# Altium footprint library PCBLIB2.PcbLib: 37 footprints (part 1 of 3)
Each footprint in its own frame and in the unit in brackets; x right, y up, seen from the top. Pads: shape width x height; smd on the part's side, far side on the other; paste and mask are expansions set on the pad; w line width, h text height; cw(c..) or ccw(c..) is an arc to the next point about the centre after c.
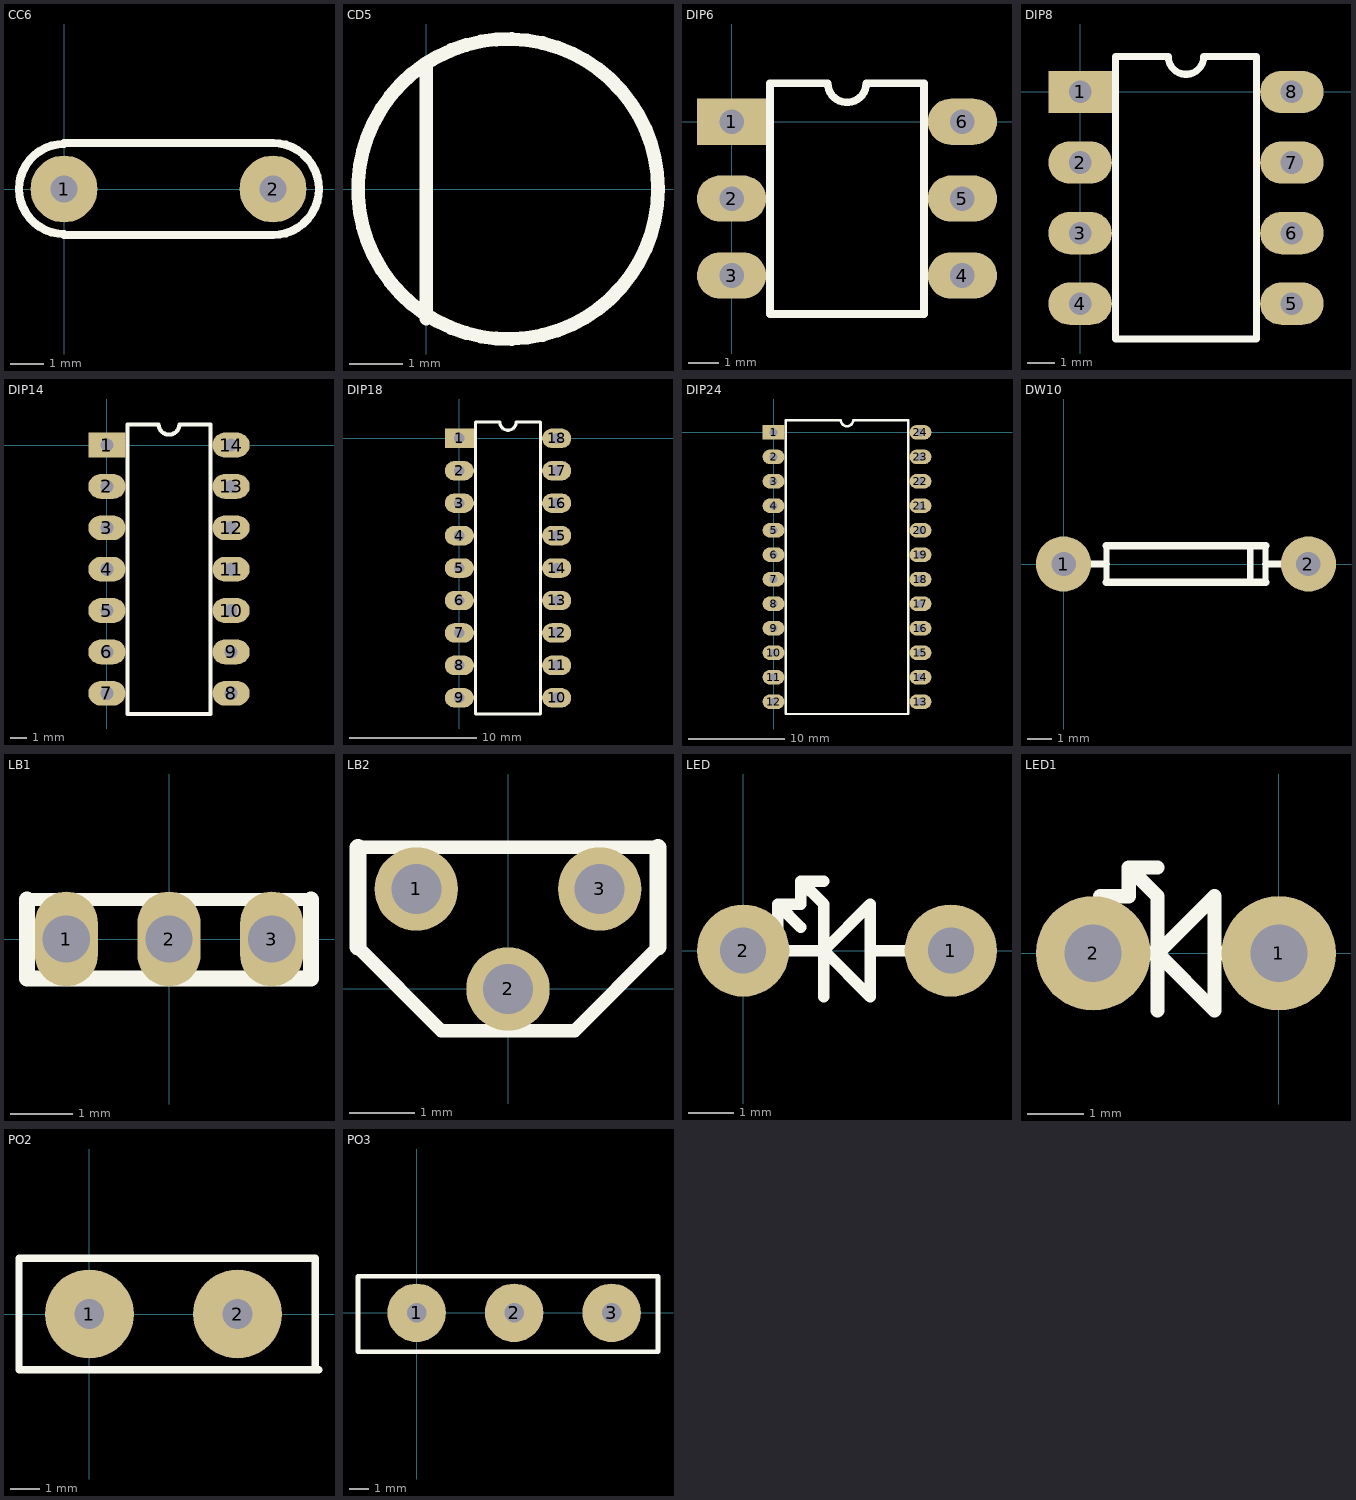
[diagram p0: the footprints below, top view; thin cyan lines are the x and y axes]

## CC6 [mil]
pads (2):
  round 80 hole 32: 1(0,0) 2(250,0)
TopOverlay:
  lines w10: 0,-55 250,-55 ccw(c250,0) 250,55 0,55 ; 0,-53.85 cw(c0,0) 0,53.85

## CD5 [mil]
TopOverlay:
  circle w10: c60,0 r110
  lines w10: 0,-95 0,90

## DIP1v [mil]

## DIP6 [mil]
pads (6):
  rect 90x60 hole 32: 1(0,0)
  oval 90x60 hole 32: 2(0,-100) 3(0,-200) 4(300,-200) 5(300,-100) 6(300,0)
TopOverlay:
  lines w10: 50,-250 250,-250 250,50 175,50 cw(c150,50) 125,50 50,50 50,-250

## DIP8 [mil]
pads (8):
  rect 90x60 hole 32: 1(0,0)
  oval 90x60 hole 32: 2(0,-100) 3(0,-200) 4(0,-300) 5(300,-300) 6(300,-200) 7(300,-100) 8(300,0)
TopOverlay:
  lines w10: 50,-350 250,-350 250,50 175,50 cw(c150,50) 125,50 50,50 50,-350

## DIP14 [mil]
pads (14):
  rect 90x60 hole 32: 1(0,0)
  oval 90x60 hole 32: 2(0,-100) 3(0,-200) 4(0,-300) 5(0,-400) 6(0,-500) 7(0,-600) 8(300,-600) 9(300,-500) 10(300,-400) 11(300,-300) 12(300,-200) 13(300,-100) 14(300,0)
TopOverlay:
  lines w10: 50,-650 50,50 125,50 ccw(c150,50) 175,50 250,50 250,-650 50,-650

## DIP18 [mil]
pads (18):
  rect 90x60 hole 32: 1(0,0)
  oval 90x60 hole 32: 2(0,-100) 3(0,-200) 4(0,-300) 5(0,-400) 6(0,-500) 7(0,-600) 8(0,-700) 9(0,-800) 10(300,-800) 11(300,-700) 12(300,-600) 13(300,-500) 14(300,-400) 15(300,-300) 16(300,-200) 17(300,-100) 18(300,0)
TopOverlay:
  lines w10: 50,-850 50,50 125,50 ccw(c150,50) 175,50 250,50 250,-850 50,-850

## DIP24 [mil]
pads (24):
  rect 90x60 hole 32: 1(0,0)
  oval 90x60 hole 32: 2(0,-100) 3(0,-200) 4(0,-300) 5(0,-400) 6(0,-500) 7(0,-600) 8(0,-700) 9(0,-800) 10(0,-900) 11(0,-1000) 12(0,-1100) 13(600,-1100) 14(600,-1000) 15(600,-900) 16(600,-800) 17(600,-700) 18(600,-600) 19(600,-500) 20(600,-400) 21(600,-300) 22(600,-200) 23(600,-100) 24(600,0)
TopOverlay:
  lines w10: 50,-1150 50,50 275,50 ccw(c300,50) 325,50 550,50 550,-1150 50,-1150

## DW10 [mil]
pads (2):
  round 90 hole 40: 1(0,0) 2(400,0)
TopOverlay:
  lines w10: 70,-30 70,30 ; 305,-30 305,30 ; 330,-30 330,30
  lines w12: 40,0 70,0 ; 70,-30 330,-30 ; 70,30 330,30 ; 330,0 360,0

## IC1 [mil]

## LB1 [mil]
pads (3):
  oval 40x60 hole 30: 1(-65,0) 2(0,0) 3(65,0)
TopOverlay:
  lines w8: -90,25 90,25
  lines w10: -90,25 -90,-25 90,-25 90,25

## LB2 [mil]
pads (3):
  round 50 hole 30: 1(-55,60) 2(0,0) 3(55,60)
TopOverlay:
  lines w8: -90,25 -40,-25 40,-25 90,25 ; -90,85 90,85
  lines w10: -90,25 -90,85 ; 90,25 90,85

## LED [mil]
pads (2):
  round 80 hole 40: 1(180,0) 2(0,0)
TopOverlay:
  lines w10: 0,0 70,0 ; 30,20 30,40 ; 50,20 30,40 ; 70,-40 70,40 50,60 ; 70,60 50,60 ; 110,0 180,0 ; 30,40 50,40 50,60 ; 70,0 110,-40 110,20 110,40 70,0

## LED1 [mil]
pads (2):
  round 80 hole 40: 1(0,0) 2(-130,0)
TopOverlay:
  lines w10: -130,0 -90,0 ; -125,20 -125,40 ; -105,20 -125,40 ; -85,-40 -85,40 -105,60 ; -85,60 -105,60 ; -40,0 0,0 ; -125,40 -105,40 -105,60 ; -85,0 -45,40 -45,20 -45,-40 -85,0

## PO2 [mil]
pads (2):
  round 120 hole 40: 1(0,0) 2(200,0)
TopOverlay:
  lines w10: 305,-75 305,75 -95,75 -95,-75 310,-75

## PO3 [mil]
pads (3):
  round 120 hole 40: 1(0,0) 2(200,0) 3(400,0)
TopOverlay:
  lines w10: -120,-80 -120,-70 -120,75 495,75 495,-80 -120,-80